# EAGLE library part ATMEGA1281-64 (library soumilcustom)
ATMega1281 Package: TQFP64 The high-performance, low-power Microchip 8-bit AVR RISC-based microcontroller combines 128KB ISP flash memory, 8KB SRAM, 4KB EEPROM, 54 general purpose I/O lines, 32 general purpose working registers, real time counter, six flexible timer/counters with compare modes, PWM, 4 USARTs, byte oriented 2-wire serial interface, 16-channel 10-bit A/D converter, and a JTAG interface for on-chip debugging. The device achieves a throughput of 8 MIPS at 16 MHz and operates between 2.7-5.5 volts.
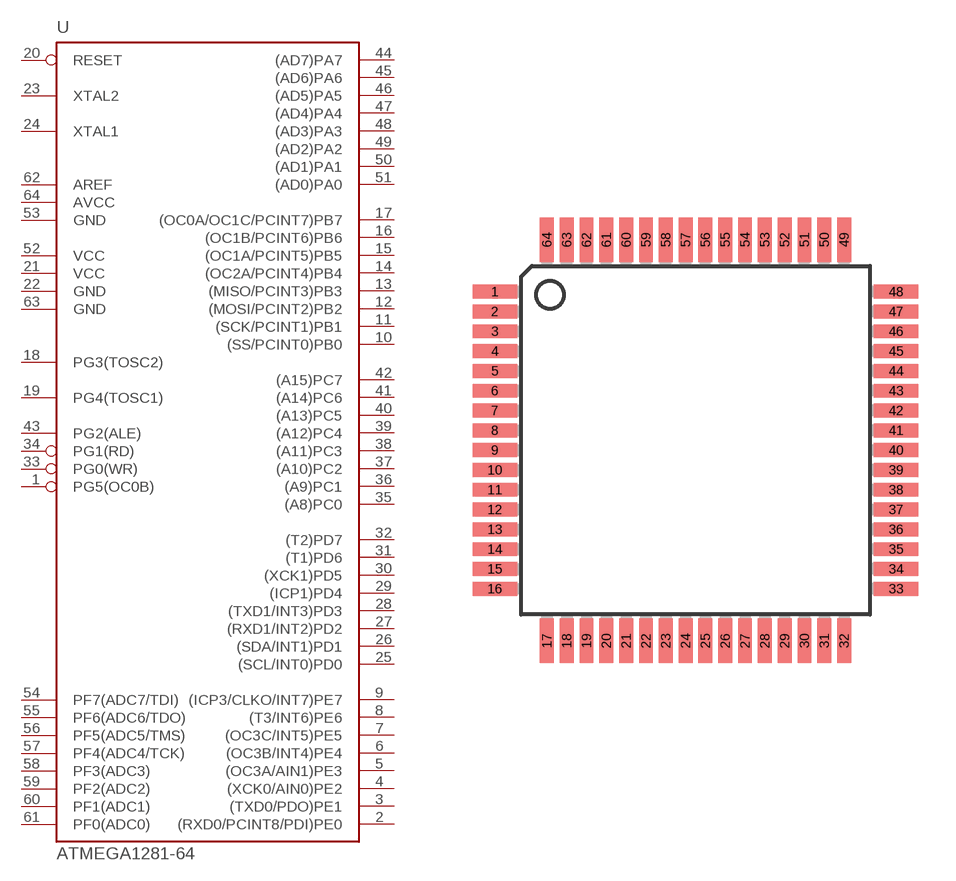
[diagram p4: symbol with the pads of TQFP64; footprint TQFP64]

Designator prefix -

## ATMEGA1281-64  [TQFP64]
1  PG5(OC0B)  in
2  (RXD0/PCINT8/PDI)PE0
3  (TXD0/PDO)PE1
4  (XCK0/AIN0)PE2
5  (OC3A/AIN1)PE3
6  (OC3B/INT4)PE4
7  (OC3C/INT5)PE5
8  (T3/INT6)PE6
9  (ICP3/CLKO/INT7)PE7
10  (SS/PCINT0)PB0
11  (SCK/PCINT1)PB1
12  (MOSI/PCINT2)PB2
13  (MISO/PCINT3)PB3
14  (OC2A/PCINT4)PB4
15  (OC1A/PCINT5)PB5
16  (OC1B/PCINT6)PB6
17  (OC0A/OC1C/PCINT7)PB7
18  PG3(TOSC2)
19  PG4(TOSC1)
20  RESET  in
21  VCC  pwr
22  GND  pwr
23  XTAL2
24  XTAL1
25  (SCL/INT0)PD0
26  (SDA/INT1)PD1
27  (RXD1/INT2)PD2
28  (TXD1/INT3)PD3
29  (ICP1)PD4
30  (XCK1)PD5
31  (T1)PD6
32  (T2)PD7
33  PG0(WR)
34  PG1(RD)
35  (A8)PC0  out
36  (A9)PC1  out
37  (A10)PC2  out
38  (A11)PC3  out
39  (A12)PC4  out
40  (A13)PC5  out
41  (A14)PC6  out
42  (A15)PC7  out
43  PG2(ALE)
44  (AD7)PA7
45  (AD6)PA6
46  (AD5)PA5
47  (AD4)PA4
48  (AD3)PA3
49  (AD2)PA2
50  (AD1)PA1
51  (AD0)PA0
52  VCC  pwr
53  GND  pwr
54  PF7(ADC7/TDI)  in
55  PF6(ADC6/TDO)  in
56  PF5(ADC5/TMS)  in
57  PF4(ADC4/TCK)  in
58  PF3(ADC3)  in
59  PF2(ADC2)  in
60  PF1(ADC1)  in
61  PF0(ADC0)  in
62  AREF  pas
63  GND  pwr
64  AVCC  pwr

## Footprint TQFP64 (pad centres in mm)
Original Pad Size: 1.1938 x 0.5588
smd 1.794 x 0.559: 1 -8.1,6; 2 -8.1,5.2; 3 -8.1,4.4; 4 -8.1,3.6; 5 -8.1,2.8; 6 -8.1,2; 7 -8.1,1.2; 8 -8.1,0.4; 9 -8.1,-0.4; 10 -8.1,-1.2; 11 -8.1,-2; 12 -8.1,-2.8; 13 -8.1,-3.6; 14 -8.1,-4.4; 15 -8.1,-5.2; 16 -8.1,-6; 33 8.1,-6; 34 8.1,-5.2; 35 8.1,-4.4; 36 8.1,-3.6; 37 8.1,-2.8; 38 8.1,-2; 39 8.1,-1.2; 40 8.1,-0.4; 41 8.1,0.4; 42 8.1,1.2; 43 8.1,2; 44 8.1,2.8; 45 8.1,3.6; 46 8.1,4.4; 47 8.1,5.2; 48 8.1,6
smd 0.559 x 1.794: 17 -6,-8.1; 18 -5.2,-8.1; 19 -4.4,-8.1; 20 -3.6,-8.1; 21 -2.8,-8.1; 22 -2,-8.1; 23 -1.2,-8.1; 24 -0.4,-8.1; 25 0.4,-8.1; 26 1.2,-8.1; 27 2,-8.1; 28 2.8,-8.1; 29 3.6,-8.1; 30 4.4,-8.1; 31 5.2,-8.1; 32 6,-8.1; 49 6,8.1; 50 5.2,8.1; 51 4.4,8.1; 52 3.6,8.1; 53 2.8,8.1; 54 2,8.1; 55 1.2,8.1; 56 0.4,8.1; 57 -0.4,8.1; 58 -1.2,8.1; 59 -2,8.1; 60 -2.8,8.1; 61 -3.6,8.1; 62 -4.4,8.1; 63 -5.2,8.1; 64 -6,8.1